# Altium footprint library Connector_Molex.PcbLib: 815 footprints (part 22 of 51)
Each footprint in its own frame and in the unit in brackets; x right, y up, seen from the top. Pads: shape width x height; smd on the part's side, far side on the other; paste and mask are expansions set on the pad; w line width, h text height; cw(c..) or ccw(c..) is an arc to the next point about the centre after c.
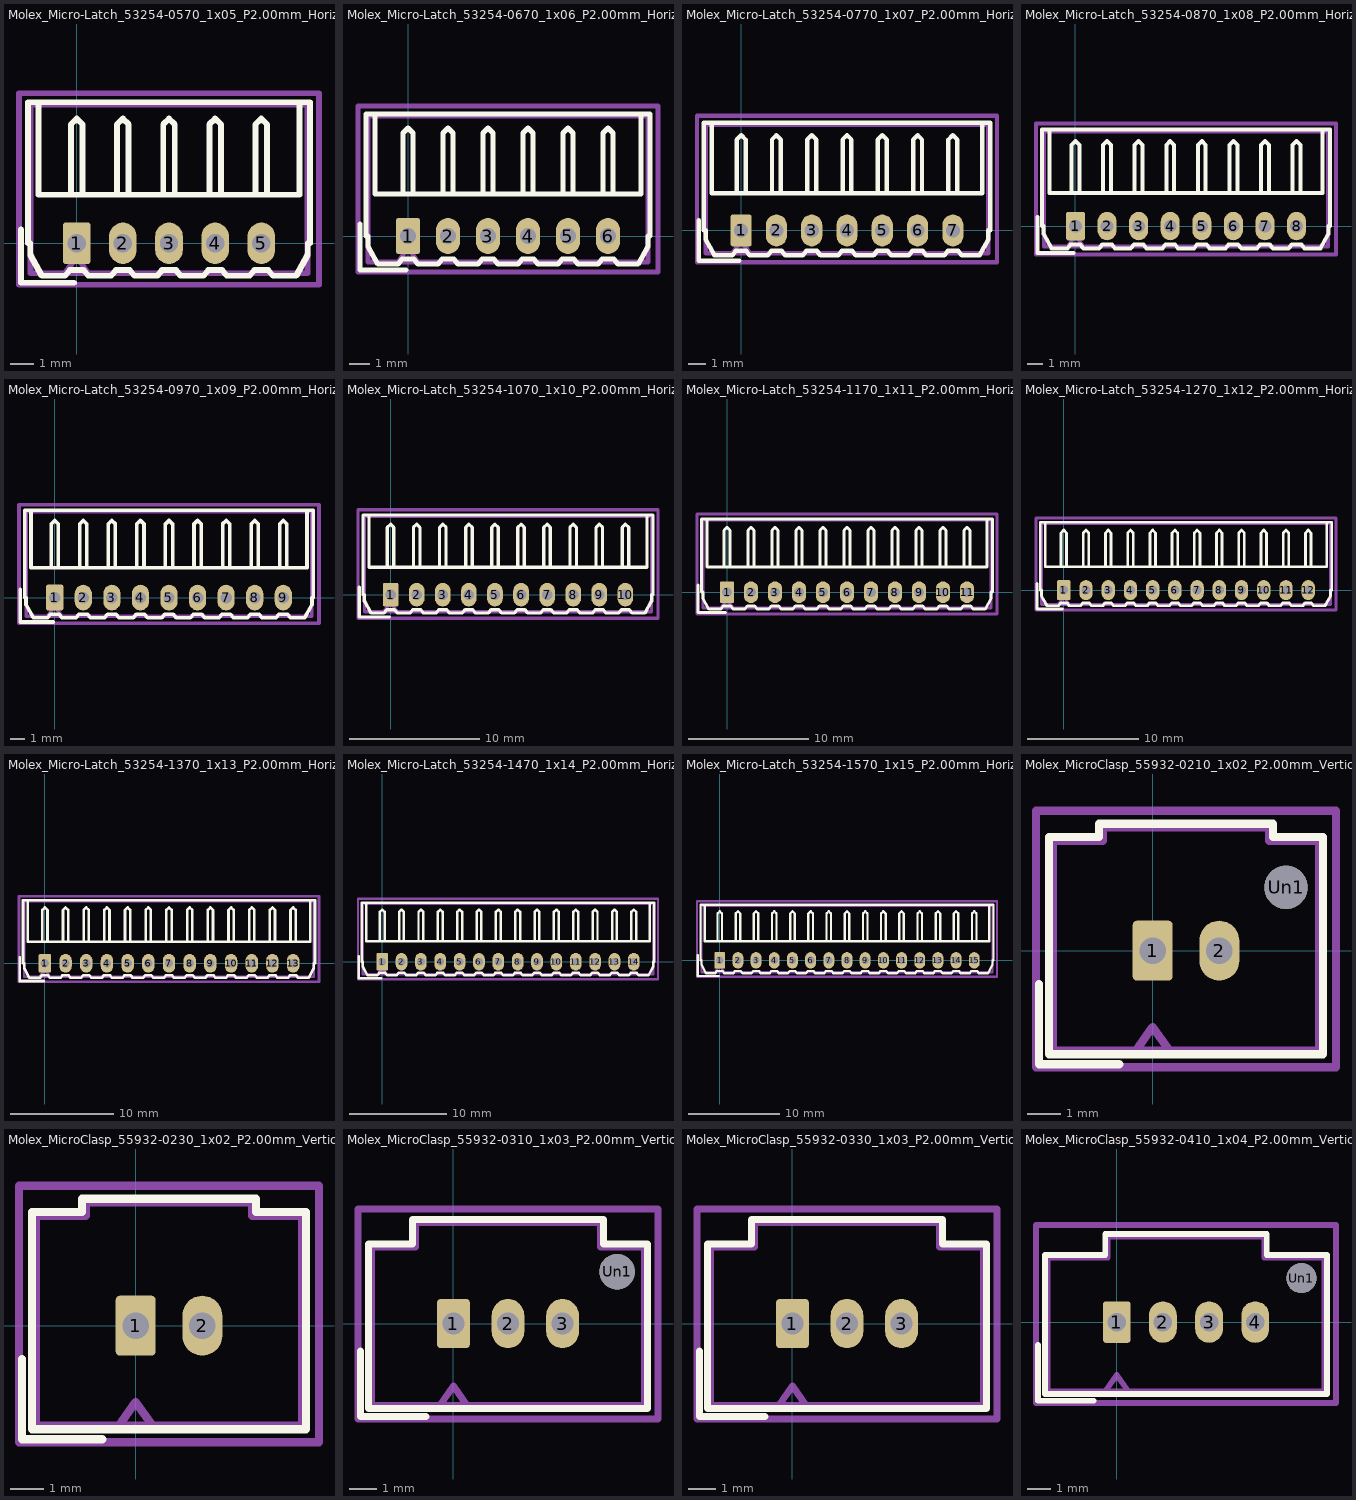
[diagram p21: the footprints below, top view; thin cyan lines are the x and y axes]

## Molex_Micro-Latch_53254-0570_1x05_P2.00mm_Horizontal [mm]
pads (5):
  rrect21% 1.2x1.8 hole 0.8: 1(0,0)
  rrect100% 1.2x1.8 hole 0.8: 2(2,0) 3(4,0) 4(6,0) 5(8,0)
F.SilkS:
  lines w0.254: -2.41,0.59 -2.41,-1.71 -0.11,-1.71 ; -1.66,6.11 -1.66,2.1 9.66,2.1 9.66,6.11 ; -0.25,2.1 -0.25,5.15 0,5.4 0.25,5.15 0.25,2.1 ; 1.75,2.1 1.75,5.15 2,5.4 2.25,5.15 2.25,2.1 ; 3.75,2.1 3.75,5.15 4,5.4 4.25,5.15 4.25,2.1 ; 5.75,2.1 5.75,5.15 6,5.4 6.25,5.15 6.25,2.1 ; 7.75,2.1 7.75,5.15 8,5.4 8.25,5.15 8.25,2.1 ; -2.11,0 -2.01,0 -2.01,-0.5 -1.51,-1.41 -0.5,-1.41 -0.3,-1.16 0.3,-1.16 0.5,-1.41 1.5,-1.41 1.7,-1.16 2.3,-1.16 2.5,-1.41 3.5,-1.41 3.7,-1.16 4.3,-1.16 4.5,-1.41 5.5,-1.41 5.7,-1.16 6.3,-1.16 6.5,-1.41 7.5,-1.41 7.7,-1.16 8.3,-1.16 8.5,-1.41 9.51,-1.41 10.01,-0.5 10.01,0 10.11,0 10.11,6.11 4,6.11 -2.11,6.11 -2.11,0
Top Assembly:
  lines w0.254: -0.5,-1.3 0,-0.593 0.5,-1.3 ; -2,-1.3 10,-1.3 10,6 -2,6 -2,-1.3
  text "'.Designator'" at -0.047,4.46 h1
Top Courtyard:
  lines w0.254: -2.5,-1.8 10.5,-1.8 10.5,6.5 -2.5,6.5 -2.5,-1.8
Top Designator:
  text ".Designator" at -3.618,1.842 h1.52

## Molex_Micro-Latch_53254-0670_1x06_P2.00mm_Horizontal [mm]
pads (6):
  rrect21% 1.2x1.8 hole 0.8: 1(0,0)
  rrect100% 1.2x1.8 hole 0.8: 2(2,0) 3(4,0) 4(6,0) 5(8,0) 6(10,0)
F.SilkS:
  lines w0.254: -2.41,0.59 -2.41,-1.71 -0.11,-1.71 ; -1.66,6.11 -1.66,2.1 11.66,2.1 11.66,6.11 ; -0.25,2.1 -0.25,5.15 0,5.4 0.25,5.15 0.25,2.1 ; 1.75,2.1 1.75,5.15 2,5.4 2.25,5.15 2.25,2.1 ; 3.75,2.1 3.75,5.15 4,5.4 4.25,5.15 4.25,2.1 ; 5.75,2.1 5.75,5.15 6,5.4 6.25,5.15 6.25,2.1 ; 7.75,2.1 7.75,5.15 8,5.4 8.25,5.15 8.25,2.1 ; 9.75,2.1 9.75,5.15 10,5.4 10.25,5.15 10.25,2.1 ; -2.11,0 -2.01,0 -2.01,-0.5 -1.51,-1.41 -0.5,-1.41 -0.3,-1.16 0.3,-1.16 0.5,-1.41 1.5,-1.41 1.7,-1.16 2.3,-1.16 2.5,-1.41 3.5,-1.41 3.7,-1.16 4.3,-1.16 4.5,-1.41 5.5,-1.41 5.7,-1.16 6.3,-1.16 6.5,-1.41 7.5,-1.41 7.7,-1.16 8.3,-1.16 8.5,-1.41 9.5,-1.41 9.7,-1.16 10.3,-1.16 10.5,-1.41 11.51,-1.41 12.01,-0.5 12.01,0 12.11,0 12.11,6.11 5,6.11 -2.11,6.11 -2.11,0
Top Assembly:
  lines w0.254: -0.5,-1.3 0,-0.593 0.5,-1.3 ; -2,-1.3 12,-1.3 12,6 -2,6 -2,-1.3
  text "'.Designator'" at 0.953,4.46 h1
Top Courtyard:
  lines w0.254: -2.5,-1.8 12.5,-1.8 12.5,6.5 -2.5,6.5 -2.5,-1.8
Top Designator:
  text ".Designator" at -2.618,1.842 h1.52

## Molex_Micro-Latch_53254-0770_1x07_P2.00mm_Horizontal [mm]
pads (7):
  rrect21% 1.2x1.8 hole 0.8: 1(0,0)
  rrect100% 1.2x1.8 hole 0.8: 2(2,0) 3(4,0) 4(6,0) 5(8,0) 6(10,0) 7(12,0)
F.SilkS:
  lines w0.254: -2.41,0.59 -2.41,-1.71 -0.11,-1.71 ; -1.66,6.11 -1.66,2.1 13.66,2.1 13.66,6.11 ; -0.25,2.1 -0.25,5.15 0,5.4 0.25,5.15 0.25,2.1 ; 1.75,2.1 1.75,5.15 2,5.4 2.25,5.15 2.25,2.1 ; 3.75,2.1 3.75,5.15 4,5.4 4.25,5.15 4.25,2.1 ; 5.75,2.1 5.75,5.15 6,5.4 6.25,5.15 6.25,2.1 ; 7.75,2.1 7.75,5.15 8,5.4 8.25,5.15 8.25,2.1 ; 9.75,2.1 9.75,5.15 10,5.4 10.25,5.15 10.25,2.1 ; 11.75,2.1 11.75,5.15 12,5.4 12.25,5.15 12.25,2.1 ; -2.11,0 -2.01,0 -2.01,-0.5 -1.51,-1.41 -0.5,-1.41 -0.3,-1.16 0.3,-1.16 0.5,-1.41 1.5,-1.41 1.7,-1.16 2.3,-1.16 2.5,-1.41 3.5,-1.41 3.7,-1.16 4.3,-1.16 4.5,-1.41 5.5,-1.41 5.7,-1.16 6.3,-1.16 6.5,-1.41 7.5,-1.41 7.7,-1.16 8.3,-1.16 8.5,-1.41 9.5,-1.41 9.7,-1.16 10.3,-1.16 10.5,-1.41 11.5,-1.41 11.7,-1.16 12.3,-1.16 12.5,-1.41 13.51,-1.41 14.01,-0.5 14.01,0 14.11,0 14.11,6.11 6,6.11 -2.11,6.11 -2.11,0
Top Assembly:
  lines w0.254: -0.5,-1.3 0,-0.593 0.5,-1.3 ; -2,-1.3 14,-1.3 14,6 -2,6 -2,-1.3
  text "'.Designator'" at 1.953,4.46 h1
Top Courtyard:
  lines w0.254: -2.5,-1.8 14.5,-1.8 14.5,6.5 -2.5,6.5 -2.5,-1.8
Top Designator:
  text ".Designator" at -1.618,1.842 h1.52

## Molex_Micro-Latch_53254-0870_1x08_P2.00mm_Horizontal [mm]
pads (8):
  rrect21% 1.2x1.8 hole 0.8: 1(0,0)
  rrect100% 1.2x1.8 hole 0.8: 2(2,0) 3(4,0) 4(6,0) 5(8,0) 6(10,0) 7(12,0) 8(14,0)
F.SilkS:
  lines w0.254: -2.41,0.59 -2.41,-1.71 -0.11,-1.71 ; -1.66,6.11 -1.66,2.1 15.66,2.1 15.66,6.11 ; -0.25,2.1 -0.25,5.15 0,5.4 0.25,5.15 0.25,2.1 ; 1.75,2.1 1.75,5.15 2,5.4 2.25,5.15 2.25,2.1 ; 3.75,2.1 3.75,5.15 4,5.4 4.25,5.15 4.25,2.1 ; 5.75,2.1 5.75,5.15 6,5.4 6.25,5.15 6.25,2.1 ; 7.75,2.1 7.75,5.15 8,5.4 8.25,5.15 8.25,2.1 ; 9.75,2.1 9.75,5.15 10,5.4 10.25,5.15 10.25,2.1 ; 11.75,2.1 11.75,5.15 12,5.4 12.25,5.15 12.25,2.1 ; 13.75,2.1 13.75,5.15 14,5.4 14.25,5.15 14.25,2.1 ; -2.11,0 -2.01,0 -2.01,-0.5 -1.51,-1.41 -0.5,-1.41 -0.3,-1.16 0.3,-1.16 0.5,-1.41 1.5,-1.41 1.7,-1.16 2.3,-1.16 2.5,-1.41 3.5,-1.41 3.7,-1.16 4.3,-1.16 4.5,-1.41 5.5,-1.41 5.7,-1.16 6.3,-1.16 6.5,-1.41 7.5,-1.41 7.7,-1.16 8.3,-1.16 8.5,-1.41 9.5,-1.41 9.7,-1.16 10.3,-1.16 10.5,-1.41 11.5,-1.41 11.7,-1.16 12.3,-1.16 12.5,-1.41 13.5,-1.41 13.7,-1.16 14.3,-1.16 14.5,-1.41 15.51,-1.41 16.01,-0.5 16.01,0 16.11,0 16.11,6.11 7,6.11 -2.11,6.11 -2.11,0
Top Assembly:
  lines w0.254: -0.5,-1.3 0,-0.593 0.5,-1.3 ; -2,-1.3 16,-1.3 16,6 -2,6 -2,-1.3
  text "'.Designator'" at 2.953,4.46 h1
Top Courtyard:
  lines w0.254: -2.5,-1.8 16.5,-1.8 16.5,6.5 -2.5,6.5 -2.5,-1.8
Top Designator:
  text ".Designator" at -0.618,1.842 h1.52

## Molex_Micro-Latch_53254-0970_1x09_P2.00mm_Horizontal [mm]
pads (9):
  rrect21% 1.2x1.8 hole 0.8: 1(0,0)
  rrect100% 1.2x1.8 hole 0.8: 2(2,0) 3(4,0) 4(6,0) 5(8,0) 6(10,0) 7(12,0) 8(14,0) 9(16,0)
F.SilkS:
  lines w0.254: -2.41,0.59 -2.41,-1.71 -0.11,-1.71 ; -1.66,6.11 -1.66,2.1 17.66,2.1 17.66,6.11 ; -0.25,2.1 -0.25,5.15 0,5.4 0.25,5.15 0.25,2.1 ; 1.75,2.1 1.75,5.15 2,5.4 2.25,5.15 2.25,2.1 ; 3.75,2.1 3.75,5.15 4,5.4 4.25,5.15 4.25,2.1 ; 5.75,2.1 5.75,5.15 6,5.4 6.25,5.15 6.25,2.1 ; 7.75,2.1 7.75,5.15 8,5.4 8.25,5.15 8.25,2.1 ; 9.75,2.1 9.75,5.15 10,5.4 10.25,5.15 10.25,2.1 ; 11.75,2.1 11.75,5.15 12,5.4 12.25,5.15 12.25,2.1 ; 13.75,2.1 13.75,5.15 14,5.4 14.25,5.15 14.25,2.1 ; 15.75,2.1 15.75,5.15 16,5.4 16.25,5.15 16.25,2.1 ; -2.11,0 -2.01,0 -2.01,-0.5 -1.51,-1.41 -0.5,-1.41 -0.3,-1.16 0.3,-1.16 0.5,-1.41 1.5,-1.41 1.7,-1.16 2.3,-1.16 2.5,-1.41 3.5,-1.41 3.7,-1.16 4.3,-1.16 4.5,-1.41 5.5,-1.41 5.7,-1.16 6.3,-1.16 6.5,-1.41 7.5,-1.41 7.7,-1.16 8.3,-1.16 8.5,-1.41 9.5,-1.41 9.7,-1.16 10.3,-1.16 10.5,-1.41 11.5,-1.41 11.7,-1.16 12.3,-1.16 12.5,-1.41 13.5,-1.41 13.7,-1.16 14.3,-1.16 14.5,-1.41 15.5,-1.41 15.7,-1.16 16.3,-1.16 16.5,-1.41 17.51,-1.41 18.01,-0.5 18.01,0 18.11,0 18.11,6.11 8,6.11 -2.11,6.11 -2.11,0
Top Assembly:
  lines w0.254: -0.5,-1.3 0,-0.593 0.5,-1.3 ; -2,-1.3 18,-1.3 18,6 -2,6 -2,-1.3
  text "'.Designator'" at 3.953,4.46 h1
Top Courtyard:
  lines w0.254: -2.5,-1.8 18.5,-1.8 18.5,6.5 -2.5,6.5 -2.5,-1.8
Top Designator:
  text ".Designator" at 0.382,1.842 h1.52

## Molex_Micro-Latch_53254-1070_1x10_P2.00mm_Horizontal [mm]
pads (10):
  rrect21% 1.2x1.8 hole 0.8: 1(0,0)
  rrect100% 1.2x1.8 hole 0.8: 2(2,0) 3(4,0) 4(6,0) 5(8,0) 6(10,0) 7(12,0) 8(14,0) 9(16,0) 10(18,0)
F.SilkS:
  lines w0.254: -2.41,0.59 -2.41,-1.71 -0.11,-1.71 ; -1.66,6.11 -1.66,2.1 19.66,2.1 19.66,6.11 ; -0.25,2.1 -0.25,5.15 0,5.4 0.25,5.15 0.25,2.1 ; 1.75,2.1 1.75,5.15 2,5.4 2.25,5.15 2.25,2.1 ; 3.75,2.1 3.75,5.15 4,5.4 4.25,5.15 4.25,2.1 ; 5.75,2.1 5.75,5.15 6,5.4 6.25,5.15 6.25,2.1 ; 7.75,2.1 7.75,5.15 8,5.4 8.25,5.15 8.25,2.1 ; 9.75,2.1 9.75,5.15 10,5.4 10.25,5.15 10.25,2.1 ; 11.75,2.1 11.75,5.15 12,5.4 12.25,5.15 12.25,2.1 ; 13.75,2.1 13.75,5.15 14,5.4 14.25,5.15 14.25,2.1 ; 15.75,2.1 15.75,5.15 16,5.4 16.25,5.15 16.25,2.1 ; 17.75,2.1 17.75,5.15 18,5.4 18.25,5.15 18.25,2.1 ; -2.11,0 -2.01,0 -2.01,-0.5 -1.51,-1.41 -0.5,-1.41 -0.3,-1.16 0.3,-1.16 0.5,-1.41 1.5,-1.41 1.7,-1.16 2.3,-1.16 2.5,-1.41 3.5,-1.41 3.7,-1.16 4.3,-1.16 4.5,-1.41 5.5,-1.41 5.7,-1.16 6.3,-1.16 6.5,-1.41 7.5,-1.41 7.7,-1.16 8.3,-1.16 8.5,-1.41 9.5,-1.41 9.7,-1.16 10.3,-1.16 10.5,-1.41 11.5,-1.41 11.7,-1.16 12.3,-1.16 12.5,-1.41 13.5,-1.41 13.7,-1.16 14.3,-1.16 14.5,-1.41 15.5,-1.41 15.7,-1.16 16.3,-1.16 16.5,-1.41 17.5,-1.41 17.7,-1.16 18.3,-1.16 18.5,-1.41 19.51,-1.41 20.01,-0.5 20.01,0 20.11,0 20.11,6.11 9,6.11 -2.11,6.11 -2.11,0
Top Assembly:
  lines w0.254: -0.5,-1.3 0,-0.593 0.5,-1.3 ; -2,-1.3 20,-1.3 20,6 -2,6 -2,-1.3
  text "'.Designator'" at 4.953,4.46 h1
Top Courtyard:
  lines w0.254: -2.5,-1.8 20.5,-1.8 20.5,6.5 -2.5,6.5 -2.5,-1.8
Top Designator:
  text ".Designator" at 1.382,1.842 h1.52

## Molex_Micro-Latch_53254-1170_1x11_P2.00mm_Horizontal [mm]
pads (11):
  rrect21% 1.2x1.8 hole 0.8: 1(0,0)
  rrect100% 1.2x1.8 hole 0.8: 2(2,0) 3(4,0) 4(6,0) 5(8,0) 6(10,0) 7(12,0) 8(14,0) 9(16,0) 10(18,0) 11(20,0)
F.SilkS:
  lines w0.254: -2.41,0.59 -2.41,-1.71 -0.11,-1.71 ; -1.66,6.11 -1.66,2.1 21.66,2.1 21.66,6.11 ; -0.25,2.1 -0.25,5.15 0,5.4 0.25,5.15 0.25,2.1 ; 1.75,2.1 1.75,5.15 2,5.4 2.25,5.15 2.25,2.1 ; 3.75,2.1 3.75,5.15 4,5.4 4.25,5.15 4.25,2.1 ; 5.75,2.1 5.75,5.15 6,5.4 6.25,5.15 6.25,2.1 ; 7.75,2.1 7.75,5.15 8,5.4 8.25,5.15 8.25,2.1 ; 9.75,2.1 9.75,5.15 10,5.4 10.25,5.15 10.25,2.1 ; 11.75,2.1 11.75,5.15 12,5.4 12.25,5.15 12.25,2.1 ; 13.75,2.1 13.75,5.15 14,5.4 14.25,5.15 14.25,2.1 ; 15.75,2.1 15.75,5.15 16,5.4 16.25,5.15 16.25,2.1 ; 17.75,2.1 17.75,5.15 18,5.4 18.25,5.15 18.25,2.1 ; 19.75,2.1 19.75,5.15 20,5.4 20.25,5.15 20.25,2.1 ; -2.11,0 -2.01,0 -2.01,-0.5 -1.51,-1.41 -0.5,-1.41 -0.3,-1.16 0.3,-1.16 0.5,-1.41 1.5,-1.41 1.7,-1.16 2.3,-1.16 2.5,-1.41 3.5,-1.41 3.7,-1.16 4.3,-1.16 4.5,-1.41 5.5,-1.41 5.7,-1.16 6.3,-1.16 6.5,-1.41 7.5,-1.41 7.7,-1.16 8.3,-1.16 8.5,-1.41 9.5,-1.41 9.7,-1.16 10.3,-1.16 10.5,-1.41 11.5,-1.41 11.7,-1.16 12.3,-1.16 12.5,-1.41 13.5,-1.41 13.7,-1.16 14.3,-1.16 14.5,-1.41 15.5,-1.41 15.7,-1.16 16.3,-1.16 16.5,-1.41 17.5,-1.41 17.7,-1.16 18.3,-1.16 18.5,-1.41 19.5,-1.41 19.7,-1.16 20.3,-1.16 20.5,-1.41 21.51,-1.41 22.01,-0.5 22.01,0 22.11,0 22.11,6.11 10,6.11 -2.11,6.11 -2.11,0
Top Assembly:
  lines w0.254: -0.5,-1.3 0,-0.593 0.5,-1.3 ; -2,-1.3 22,-1.3 22,6 -2,6 -2,-1.3
  text "'.Designator'" at 5.953,4.46 h1
Top Courtyard:
  lines w0.254: -2.5,-1.8 22.5,-1.8 22.5,6.5 -2.5,6.5 -2.5,-1.8
Top Designator:
  text ".Designator" at 2.382,1.842 h1.52

## Molex_Micro-Latch_53254-1270_1x12_P2.00mm_Horizontal [mm]
pads (12):
  rrect21% 1.2x1.8 hole 0.8: 1(0,0)
  rrect100% 1.2x1.8 hole 0.8: 2(2,0) 3(4,0) 4(6,0) 5(8,0) 6(10,0) 7(12,0) 8(14,0) 9(16,0) 10(18,0) 11(20,0) 12(22,0)
F.SilkS:
  lines w0.254: -2.41,0.59 -2.41,-1.71 -0.11,-1.71 ; -1.66,6.11 -1.66,2.1 23.66,2.1 23.66,6.11 ; -0.25,2.1 -0.25,5.15 0,5.4 0.25,5.15 0.25,2.1 ; 1.75,2.1 1.75,5.15 2,5.4 2.25,5.15 2.25,2.1 ; 3.75,2.1 3.75,5.15 4,5.4 4.25,5.15 4.25,2.1 ; 5.75,2.1 5.75,5.15 6,5.4 6.25,5.15 6.25,2.1 ; 7.75,2.1 7.75,5.15 8,5.4 8.25,5.15 8.25,2.1 ; 9.75,2.1 9.75,5.15 10,5.4 10.25,5.15 10.25,2.1 ; 11.75,2.1 11.75,5.15 12,5.4 12.25,5.15 12.25,2.1 ; 13.75,2.1 13.75,5.15 14,5.4 14.25,5.15 14.25,2.1 ; 15.75,2.1 15.75,5.15 16,5.4 16.25,5.15 16.25,2.1 ; 17.75,2.1 17.75,5.15 18,5.4 18.25,5.15 18.25,2.1 ; 19.75,2.1 19.75,5.15 20,5.4 20.25,5.15 20.25,2.1 ; 21.75,2.1 21.75,5.15 22,5.4 22.25,5.15 22.25,2.1 ; -2.11,0 -2.01,0 -2.01,-0.5 -1.51,-1.41 -0.5,-1.41 -0.3,-1.16 0.3,-1.16 0.5,-1.41 1.5,-1.41 1.7,-1.16 2.3,-1.16 2.5,-1.41 3.5,-1.41 3.7,-1.16 4.3,-1.16 4.5,-1.41 5.5,-1.41 5.7,-1.16 6.3,-1.16 6.5,-1.41 7.5,-1.41 7.7,-1.16 8.3,-1.16 8.5,-1.41 9.5,-1.41 9.7,-1.16 10.3,-1.16 10.5,-1.41 11.5,-1.41 11.7,-1.16 12.3,-1.16 12.5,-1.41 13.5,-1.41 13.7,-1.16 14.3,-1.16 14.5,-1.41 15.5,-1.41 15.7,-1.16 16.3,-1.16 16.5,-1.41 17.5,-1.41 17.7,-1.16 18.3,-1.16 18.5,-1.41 19.5,-1.41 19.7,-1.16 20.3,-1.16 20.5,-1.41 21.5,-1.41 21.7,-1.16 22.3,-1.16 22.5,-1.41 23.51,-1.41 24.01,-0.5 24.01,0 24.11,0 24.11,6.11 11,6.11 -2.11,6.11 -2.11,0
Top Assembly:
  lines w0.254: -0.5,-1.3 0,-0.593 0.5,-1.3 ; -2,-1.3 24,-1.3 24,6 -2,6 -2,-1.3
  text "'.Designator'" at 6.953,4.46 h1
Top Courtyard:
  lines w0.254: -2.5,-1.8 24.5,-1.8 24.5,6.5 -2.5,6.5 -2.5,-1.8
Top Designator:
  text ".Designator" at 3.382,1.842 h1.52

## Molex_Micro-Latch_53254-1370_1x13_P2.00mm_Horizontal [mm]
pads (13):
  rrect21% 1.2x1.8 hole 0.8: 1(0,0)
  rrect100% 1.2x1.8 hole 0.8: 2(2,0) 3(4,0) 4(6,0) 5(8,0) 6(10,0) 7(12,0) 8(14,0) 9(16,0) 10(18,0) 11(20,0) 12(22,0) 13(24,0)
F.SilkS:
  lines w0.254: -2.41,0.59 -2.41,-1.71 -0.11,-1.71 ; -1.66,6.11 -1.66,2.1 25.66,2.1 25.66,6.11 ; -0.25,2.1 -0.25,5.15 0,5.4 0.25,5.15 0.25,2.1 ; 1.75,2.1 1.75,5.15 2,5.4 2.25,5.15 2.25,2.1 ; 3.75,2.1 3.75,5.15 4,5.4 4.25,5.15 4.25,2.1 ; 5.75,2.1 5.75,5.15 6,5.4 6.25,5.15 6.25,2.1 ; 7.75,2.1 7.75,5.15 8,5.4 8.25,5.15 8.25,2.1 ; 9.75,2.1 9.75,5.15 10,5.4 10.25,5.15 10.25,2.1 ; 11.75,2.1 11.75,5.15 12,5.4 12.25,5.15 12.25,2.1 ; 13.75,2.1 13.75,5.15 14,5.4 14.25,5.15 14.25,2.1 ; 15.75,2.1 15.75,5.15 16,5.4 16.25,5.15 16.25,2.1 ; 17.75,2.1 17.75,5.15 18,5.4 18.25,5.15 18.25,2.1 ; 19.75,2.1 19.75,5.15 20,5.4 20.25,5.15 20.25,2.1 ; 21.75,2.1 21.75,5.15 22,5.4 22.25,5.15 22.25,2.1 ; 23.75,2.1 23.75,5.15 24,5.4 24.25,5.15 24.25,2.1 ; -2.11,0 -2.01,0 -2.01,-0.5 -1.51,-1.41 -0.5,-1.41 -0.3,-1.16 0.3,-1.16 0.5,-1.41 1.5,-1.41 1.7,-1.16 2.3,-1.16 2.5,-1.41 3.5,-1.41 3.7,-1.16 4.3,-1.16 4.5,-1.41 5.5,-1.41 5.7,-1.16 6.3,-1.16 6.5,-1.41 7.5,-1.41 7.7,-1.16 8.3,-1.16 8.5,-1.41 9.5,-1.41 9.7,-1.16 10.3,-1.16 10.5,-1.41 11.5,-1.41 11.7,-1.16 12.3,-1.16 12.5,-1.41 13.5,-1.41 13.7,-1.16 14.3,-1.16 14.5,-1.41 15.5,-1.41 15.7,-1.16 16.3,-1.16 16.5,-1.41 17.5,-1.41 17.7,-1.16 18.3,-1.16 18.5,-1.41 19.5,-1.41 19.7,-1.16 20.3,-1.16 20.5,-1.41 21.5,-1.41 21.7,-1.16 22.3,-1.16 22.5,-1.41 23.5,-1.41 23.7,-1.16 24.3,-1.16 24.5,-1.41 25.51,-1.41 26.01,-0.5 26.01,0 26.11,0 26.11,6.11 12,6.11 -2.11,6.11 -2.11,0
Top Assembly:
  lines w0.254: -0.5,-1.3 0,-0.593 0.5,-1.3 ; -2,-1.3 26,-1.3 26,6 -2,6 -2,-1.3
  text "'.Designator'" at 7.953,4.46 h1
Top Courtyard:
  lines w0.254: -2.5,-1.8 26.5,-1.8 26.5,6.5 -2.5,6.5 -2.5,-1.8
Top Designator:
  text ".Designator" at 4.382,1.842 h1.52

## Molex_Micro-Latch_53254-1470_1x14_P2.00mm_Horizontal [mm]
pads (14):
  rrect21% 1.2x1.8 hole 0.8: 1(0,0)
  rrect100% 1.2x1.8 hole 0.8: 2(2,0) 3(4,0) 4(6,0) 5(8,0) 6(10,0) 7(12,0) 8(14,0) 9(16,0) 10(18,0) 11(20,0) 12(22,0) 13(24,0) 14(26,0)
F.SilkS:
  lines w0.254: -2.41,0.59 -2.41,-1.71 -0.11,-1.71 ; -1.66,6.11 -1.66,2.1 27.66,2.1 27.66,6.11 ; -0.25,2.1 -0.25,5.15 0,5.4 0.25,5.15 0.25,2.1 ; 1.75,2.1 1.75,5.15 2,5.4 2.25,5.15 2.25,2.1 ; 3.75,2.1 3.75,5.15 4,5.4 4.25,5.15 4.25,2.1 ; 5.75,2.1 5.75,5.15 6,5.4 6.25,5.15 6.25,2.1 ; 7.75,2.1 7.75,5.15 8,5.4 8.25,5.15 8.25,2.1 ; 9.75,2.1 9.75,5.15 10,5.4 10.25,5.15 10.25,2.1 ; 11.75,2.1 11.75,5.15 12,5.4 12.25,5.15 12.25,2.1 ; 13.75,2.1 13.75,5.15 14,5.4 14.25,5.15 14.25,2.1 ; 15.75,2.1 15.75,5.15 16,5.4 16.25,5.15 16.25,2.1 ; 17.75,2.1 17.75,5.15 18,5.4 18.25,5.15 18.25,2.1 ; 19.75,2.1 19.75,5.15 20,5.4 20.25,5.15 20.25,2.1 ; 21.75,2.1 21.75,5.15 22,5.4 22.25,5.15 22.25,2.1 ; 23.75,2.1 23.75,5.15 24,5.4 24.25,5.15 24.25,2.1 ; 25.75,2.1 25.75,5.15 26,5.4 26.25,5.15 26.25,2.1 ; -2.11,0 -2.01,0 -2.01,-0.5 -1.51,-1.41 -0.5,-1.41 -0.3,-1.16 0.3,-1.16 0.5,-1.41 1.5,-1.41 1.7,-1.16 2.3,-1.16 2.5,-1.41 3.5,-1.41 3.7,-1.16 4.3,-1.16 4.5,-1.41 5.5,-1.41 5.7,-1.16 6.3,-1.16 6.5,-1.41 7.5,-1.41 7.7,-1.16 8.3,-1.16 8.5,-1.41 9.5,-1.41 9.7,-1.16 10.3,-1.16 10.5,-1.41 11.5,-1.41 11.7,-1.16 12.3,-1.16 12.5,-1.41 13.5,-1.41 13.7,-1.16 14.3,-1.16 14.5,-1.41 15.5,-1.41 15.7,-1.16 16.3,-1.16 16.5,-1.41 17.5,-1.41 17.7,-1.16 18.3,-1.16 18.5,-1.41 19.5,-1.41 19.7,-1.16 20.3,-1.16 20.5,-1.41 21.5,-1.41 21.7,-1.16 22.3,-1.16 22.5,-1.41 23.5,-1.41 23.7,-1.16 24.3,-1.16 24.5,-1.41 25.5,-1.41 25.7,-1.16 26.3,-1.16 26.5,-1.41 27.51,-1.41 28.01,-0.5 28.01,0 28.11,0 28.11,6.11 13,6.11 -2.11,6.11 -2.11,0
Top Assembly:
  lines w0.254: -0.5,-1.3 0,-0.593 0.5,-1.3 ; -2,-1.3 28,-1.3 28,6 -2,6 -2,-1.3
  text "'.Designator'" at 8.953,4.46 h1
Top Courtyard:
  lines w0.254: -2.5,-1.8 28.5,-1.8 28.5,6.5 -2.5,6.5 -2.5,-1.8
Top Designator:
  text ".Designator" at 5.382,1.842 h1.52

## Molex_Micro-Latch_53254-1570_1x15_P2.00mm_Horizontal [mm]
pads (15):
  rrect21% 1.2x1.8 hole 0.8: 1(0,0)
  rrect100% 1.2x1.8 hole 0.8: 2(2,0) 3(4,0) 4(6,0) 5(8,0) 6(10,0) 7(12,0) 8(14,0) 9(16,0) 10(18,0) 11(20,0) 12(22,0) 13(24,0) 14(26,0) 15(28,0)
F.SilkS:
  lines w0.254: -2.41,0.59 -2.41,-1.71 -0.11,-1.71 ; -1.66,6.11 -1.66,2.1 29.66,2.1 29.66,6.11 ; -0.25,2.1 -0.25,5.15 0,5.4 0.25,5.15 0.25,2.1 ; 1.75,2.1 1.75,5.15 2,5.4 2.25,5.15 2.25,2.1 ; 3.75,2.1 3.75,5.15 4,5.4 4.25,5.15 4.25,2.1 ; 5.75,2.1 5.75,5.15 6,5.4 6.25,5.15 6.25,2.1 ; 7.75,2.1 7.75,5.15 8,5.4 8.25,5.15 8.25,2.1 ; 9.75,2.1 9.75,5.15 10,5.4 10.25,5.15 10.25,2.1 ; 11.75,2.1 11.75,5.15 12,5.4 12.25,5.15 12.25,2.1 ; 13.75,2.1 13.75,5.15 14,5.4 14.25,5.15 14.25,2.1 ; 15.75,2.1 15.75,5.15 16,5.4 16.25,5.15 16.25,2.1 ; 17.75,2.1 17.75,5.15 18,5.4 18.25,5.15 18.25,2.1 ; 19.75,2.1 19.75,5.15 20,5.4 20.25,5.15 20.25,2.1 ; 21.75,2.1 21.75,5.15 22,5.4 22.25,5.15 22.25,2.1 ; 23.75,2.1 23.75,5.15 24,5.4 24.25,5.15 24.25,2.1 ; 25.75,2.1 25.75,5.15 26,5.4 26.25,5.15 26.25,2.1 ; 27.75,2.1 27.75,5.15 28,5.4 28.25,5.15 28.25,2.1 ; -2.11,0 -2.01,0 -2.01,-0.5 -1.51,-1.41 -0.5,-1.41 -0.3,-1.16 0.3,-1.16 0.5,-1.41 1.5,-1.41 1.7,-1.16 2.3,-1.16 2.5,-1.41 3.5,-1.41 3.7,-1.16 4.3,-1.16 4.5,-1.41 5.5,-1.41 5.7,-1.16 6.3,-1.16 6.5,-1.41 7.5,-1.41 7.7,-1.16 8.3,-1.16 8.5,-1.41 9.5,-1.41 9.7,-1.16 10.3,-1.16 10.5,-1.41 11.5,-1.41 11.7,-1.16 12.3,-1.16 12.5,-1.41 13.5,-1.41 13.7,-1.16 14.3,-1.16 14.5,-1.41 15.5,-1.41 15.7,-1.16 16.3,-1.16 16.5,-1.41 17.5,-1.41 17.7,-1.16 18.3,-1.16 18.5,-1.41 19.5,-1.41 19.7,-1.16 20.3,-1.16 20.5,-1.41 21.5,-1.41 21.7,-1.16 22.3,-1.16 22.5,-1.41 23.5,-1.41 23.7,-1.16 24.3,-1.16 24.5,-1.41 25.5,-1.41 25.7,-1.16 26.3,-1.16 26.5,-1.41 27.5,-1.41 27.7,-1.16 28.3,-1.16 28.5,-1.41 29.51,-1.41 30.01,-0.5 30.01,0 30.11,0 30.11,6.11 14,6.11 -2.11,6.11 -2.11,0
Top Assembly:
  lines w0.254: -0.5,-1.3 0,-0.593 0.5,-1.3 ; -2,-1.3 30,-1.3 30,6 -2,6 -2,-1.3
  text "'.Designator'" at 9.953,4.46 h1
Top Courtyard:
  lines w0.254: -2.5,-1.8 30.5,-1.8 30.5,6.5 -2.5,6.5 -2.5,-1.8
Top Designator:
  text ".Designator" at 6.382,1.842 h1.52

## Molex_MicroClasp_55932-0210_1x02_P2.00mm_Vertical [mm]
pads (3):
  rrect21% 1.2x1.8 hole 0.8: 1(0,0)
  rrect100% 1.2x1.8 hole 0.8: 2(2,0)
  round 1.3 hole 1.3: Un1(4,1.9)
F.SilkS:
  lines w0.254: -3.41,-1 -3.41,-3.41 -1,-3.41 ; -3.11,-3.11 1,-3.11 5.11,-3.11 5.11,3.41 3.61,3.41 3.61,3.81 1,3.81 -1.61,3.81 -1.61,3.41 -3.11,3.41 -3.11,-3.11
Top Assembly:
  lines w0.254: -0.5,-3 0,-2.293 0.5,-3 ; -3,-3 1,-3 5,-3 5,3.3 3.5,3.3 3.5,3.7 1,3.7 -1.5,3.7 -1.5,3.3 -3,3.3 -3,-3
  text "'.Designator'" at -3.047,1.76 h1
Top Courtyard:
  lines w0.254: -3.5,-3.5 5.5,-3.5 5.5,4.2 -3.5,4.2 -3.5,-3.5
Top Designator:
  text ".Designator" at -6.618,-0.158 h1.52

## Molex_MicroClasp_55932-0230_1x02_P2.00mm_Vertical [mm]
pads (2):
  rrect21% 1.2x1.8 hole 0.8: 1(0,0)
  rrect100% 1.2x1.8 hole 0.8: 2(2,0)
F.SilkS:
  lines w0.254: -3.41,-1 -3.41,-3.41 -1,-3.41 ; -3.11,-3.11 1,-3.11 5.11,-3.11 5.11,3.41 3.61,3.41 3.61,3.81 1,3.81 -1.61,3.81 -1.61,3.41 -3.11,3.41 -3.11,-3.11
Top Assembly:
  lines w0.254: -0.5,-3 0,-2.293 0.5,-3 ; -3,-3 1,-3 5,-3 5,3.3 3.5,3.3 3.5,3.7 1,3.7 -1.5,3.7 -1.5,3.3 -3,3.3 -3,-3
  text "'.Designator'" at -3.047,1.76 h1
Top Courtyard:
  lines w0.254: -3.5,-3.5 5.5,-3.5 5.5,4.2 -3.5,4.2 -3.5,-3.5
Top Designator:
  text ".Designator" at -6.618,-0.158 h1.52

## Molex_MicroClasp_55932-0310_1x03_P2.00mm_Vertical [mm]
pads (4):
  rrect21% 1.2x1.8 hole 0.8: 1(0,0)
  rrect100% 1.2x1.8 hole 0.8: 2(2,0) 3(4,0)
  round 1.3 hole 1.3: Un1(6,1.9)
F.SilkS:
  lines w0.254: -3.41,-1 -3.41,-3.41 -1,-3.41 ; -3.11,-3.11 -3.11,2.91 -1.5,2.91 -1.5,3.81 2,3.81 5.5,3.81 5.5,2.91 7.11,2.91 7.11,-3.11 2,-3.11 -3.11,-3.11
Top Assembly:
  lines w0.254: -0.5,-3 0,-2.293 0.5,-3 ; -3,-3 -3,2.8 -1.39,2.8 -1.39,3.7 2,3.7 5.39,3.7 5.39,2.8 7,2.8 7,-3 2,-3 -3,-3
  text "'.Designator'" at -2.047,1.26 h1
Top Courtyard:
  lines w0.254: -3.5,-3.5 -3.5,4.2 7.5,4.2 7.5,-3.5 -3.5,-3.5
Top Designator:
  text ".Designator" at -5.618,-0.158 h1.52

## Molex_MicroClasp_55932-0330_1x03_P2.00mm_Vertical [mm]
pads (3):
  rrect21% 1.2x1.8 hole 0.8: 1(0,0)
  rrect100% 1.2x1.8 hole 0.8: 2(2,0) 3(4,0)
F.SilkS:
  lines w0.254: -3.41,-1 -3.41,-3.41 -1,-3.41 ; -3.11,-3.11 2,-3.11 7.11,-3.11 7.11,2.91 5.5,2.91 5.5,3.81 2,3.81 -1.5,3.81 -1.5,2.91 -3.11,2.91 -3.11,-3.11
Top Assembly:
  lines w0.254: -0.5,-3 0,-2.293 0.5,-3 ; -3,-3 2,-3 7,-3 7,2.8 5.39,2.8 5.39,3.7 2,3.7 -1.39,3.7 -1.39,2.8 -3,2.8 -3,-3
  text "'.Designator'" at -2.047,1.26 h1
Top Courtyard:
  lines w0.254: -3.5,-3.5 7.5,-3.5 7.5,4.2 -3.5,4.2 -3.5,-3.5
Top Designator:
  text ".Designator" at -5.618,-0.158 h1.52

## Molex_MicroClasp_55932-0410_1x04_P2.00mm_Vertical [mm]
pads (5):
  rrect21% 1.2x1.8 hole 0.8: 1(0,0)
  rrect100% 1.2x1.8 hole 0.8: 2(2,0) 3(4,0) 4(6,0)
  round 1.3 hole 1.3: Un1(8,1.9)
F.SilkS:
  lines w0.254: -3.41,-1 -3.41,-3.41 -1,-3.41 ; -3.11,-3.11 3,-3.11 9.11,-3.11 9.11,2.91 6.5,2.91 6.5,3.81 3,3.81 -0.5,3.81 -0.5,2.91 -3.11,2.91 -3.11,-3.11
Top Assembly:
  lines w0.254: -0.5,-3 0,-2.293 0.5,-3 ; -3,-3 3,-3 9,-3 9,2.8 6.39,2.8 6.39,3.7 3,3.7 -0.39,3.7 -0.39,2.8 -3,2.8 -3,-3
  text "'.Designator'" at -1.047,1.26 h1
Top Courtyard:
  lines w0.254: -3.5,-3.5 9.5,-3.5 9.5,4.2 -3.5,4.2 -3.5,-3.5
Top Designator:
  text ".Designator" at -4.618,-0.158 h1.52